# EAGLE library part SN74CB3Q3306A (library SN74CB)
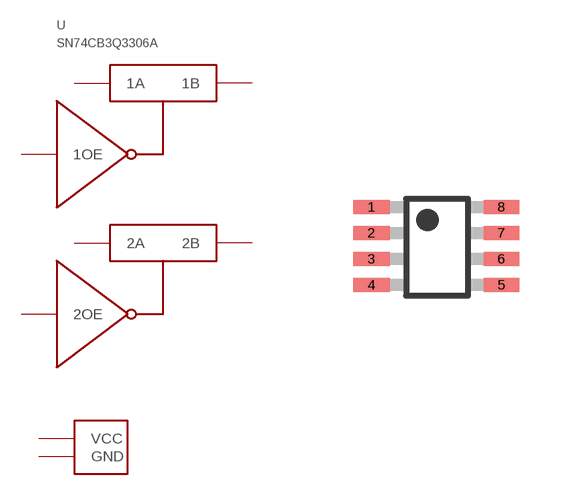
[diagram p0: symbol with the pads of TSSOP8-PW; footprint TSSOP8-PW]

Designator prefix -

## SN74CB3Q3306A  [TSSOP8-PW]
1  1OE
2  1A
3  1B
4  GND
5  2A
6  2B
7  2OE
8  VCC

## Footprint TSSOP8-PW (pad centres in mm)
smd 0.9 x 0.35: 1 -3.025,1.005; 2 -3.025,0.355; 3 -3.025,-0.295; 4 -3.025,-0.945; 5 0.225,-0.945; 6 0.225,-0.295; 7 0.225,0.355; 8 0.225,1.005